# EAGLE library part MAPLE_MINI (library tm-mcu)
MapleMini 16/03/03 shiu
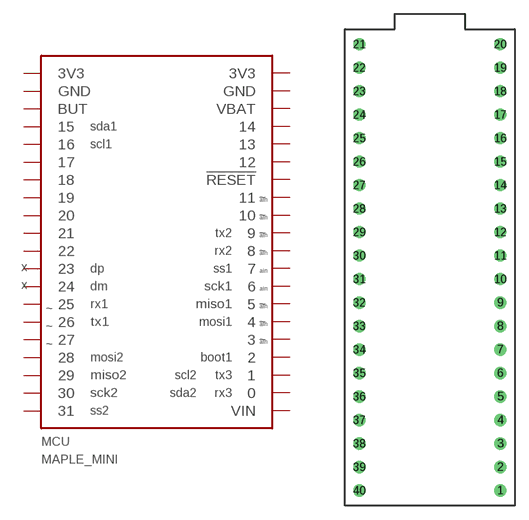
[diagram p0: symbol with the pads of MAPLE_MINI; footprint MAPLE_MINI]

Designator prefix MCU

## MAPLE_MINI  [MAPLE_MINI]
1  VIN
2  0
3  1
4  2
5  3
6  4
7  5
8  6
9  7
10  8
11  9
12  10
13  11
14  !RESET
15  12
16  13
17  14
18  VBAT
19  GND
20  3V3
21  3V3
22  GND
23  BUT
24  15
25  16
26  17
27  18
28  19
29  20
30  21
31  22
32  23
33  24
34  25
35  26
36  27
37  28
38  29
39  30
40  31

## Footprint MAPLE_MINI (pad centres in mm)
Maple Mini 16/03/03 shiu
drill 0.8: 1 7.62,-24.13; 2 7.62,-21.59; 3 7.62,-19.05; 4 7.62,-16.51; 5 7.62,-13.97; 6 7.62,-11.43; 7 7.62,-8.89; 8 7.62,-6.35; 9 7.62,-3.81; 10 7.62,-1.27; 11 7.62,1.27; 12 7.62,3.81; 13 7.62,6.35; 14 7.62,8.89; 15 7.62,11.43; 16 7.62,13.97; 17 7.62,16.51; 18 7.62,19.05; 19 7.62,21.59; 20 7.62,24.13; 21 -7.62,24.13; 22 -7.62,21.59; 23 -7.62,19.05; 24 -7.62,16.51; 25 -7.62,13.97; 26 -7.62,11.43; 27 -7.62,8.89; 28 -7.62,6.35; 29 -7.62,3.81; 30 -7.62,1.27; 31 -7.62,-1.27; 32 -7.62,-3.81; 33 -7.62,-6.35; 34 -7.62,-8.89; 35 -7.62,-11.43; 36 -7.62,-13.97; 37 -7.62,-16.51; 38 -7.62,-19.05; 39 -7.62,-21.59; 40 -7.62,-24.13